# Altium footprint library ESE516_PCB.PcbLib: 24 footprints (part 1 of 2)
Each footprint in its own frame and in the unit in brackets; x right, y up, seen from the top. Pads: shape width x height; smd on the part's side, far side on the other; paste and mask are expansions set on the pad; w line width, h text height; cw(c..) or ccw(c..) is an arc to the next point about the centre after c.
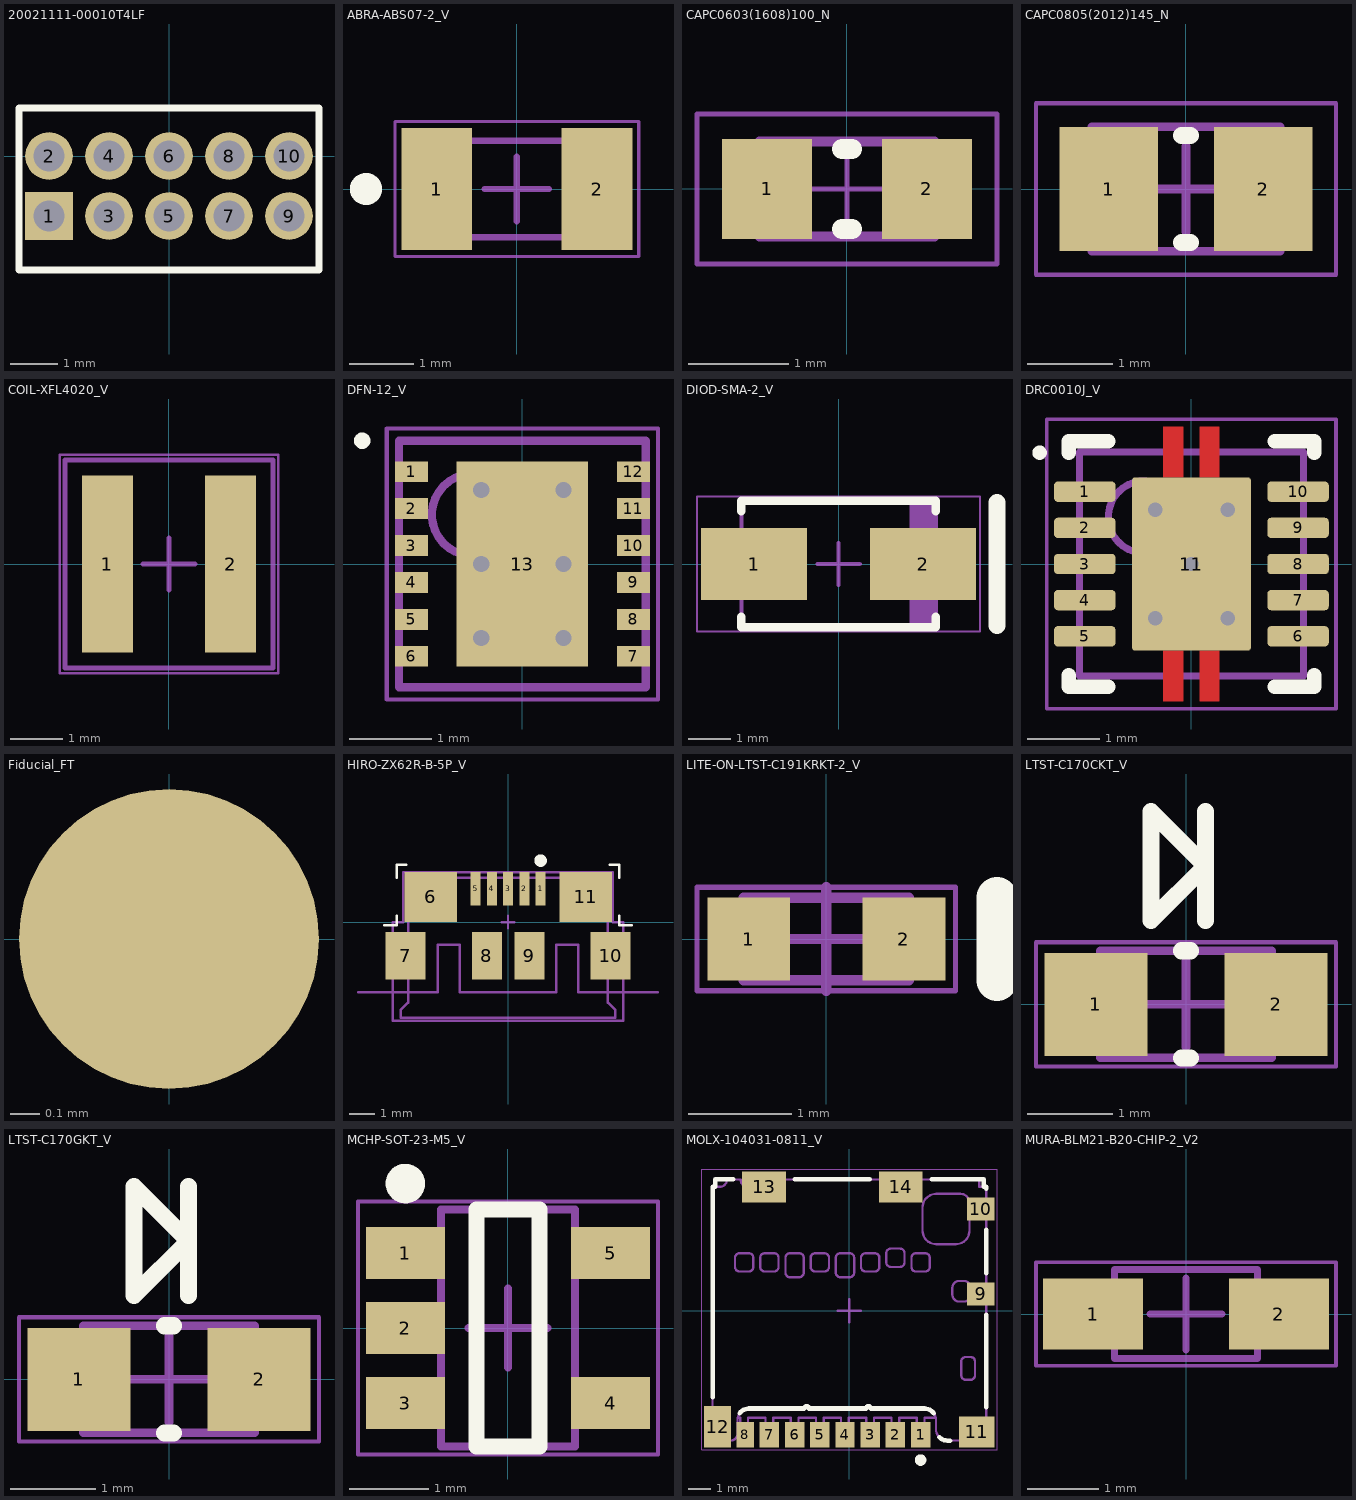
[diagram p0: the footprints below, top view; thin cyan lines are the x and y axes]

## 20021111-00010T4LF [mm] "CONN HEADER 10POS UNSHD VERT T/H"
pads (10):
  rect 1.006x1.006 hole 0.65: 1(-2.54,-1.27)
  round 1.006 hole 0.65: 2(-2.54,0) 3(-1.27,-1.27) 4(-1.27,0) 5(0,-1.27) 6(0,0) 7(1.27,-1.27) 8(1.27,0) 9(2.54,-1.27) 10(2.54,0)
Top Overlay:
  lines w0.152: -3.175,-2.413 3.175,-2.413 3.175,1.016 -3.175,1.016 -3.175,-2.413
3D body "10posheader.STEP": height 5.5, standoff -2.35, extent -3.175,-2.335 3.175,1.065

## ABRA-ABS07-2_V [mm] "Hand Drawn, 2-Leads, Body 3.2x1.5mm, Pitch 2.5mm"
height 0.9
pads (2):
  rect 1.1x1.9 smd: 1(-1.25,0) 2(1.25,0)
Top Overlay:
  circle w0.25: c-2.35,0 r0.125
Mechanical 13:
  lines w0.1: -1.6,-0.75 -1.6,0.75 1.6,0.75 1.6,-0.75 -1.6,-0.75
Mechanical 15:
  lines w0.05: -1.9,-1.05 -1.9,1.05 1.9,1.05 1.9,-1.05 -1.9,-1.05
  lines w0.1: -0.5,0 0.5,0 ; 0,-0.5 0,0.5
3D body: height 0.9, standoff 0, extent -1.6,-0.75 1.6,0.75

## CAPC0603(1608)100_N [mm] "Chip Capacitor, Body 1.6x0.8mm, Height 1.0mm, IPC Medium Density"
height 1
pads (2):
  rect 0.9x1 smd: 1(-0.8,0) 2(0.8,0)
Top Overlay:
  lines w0.2: -0.05,-0.4 0.05,-0.4 ; -0.05,0.4 0.05,0.4
Mechanical 13:
  lines w0.1: -0.875,-0.475 0.875,-0.475 0.875,0.475 -0.875,0.475 -0.875,-0.475
Mechanical 15:
  lines w0.05: -0.475,0 0.475,0 ; 0,-0.475 0,0.475 ; -1.5,-0.75 1.5,-0.75 1.5,0.75 -1.5,0.75 -1.5,-0.75
3D body: height 1, standoff 0, extent 0.525,-0.475 0.875,0.475
3D body: height 1, standoff 0, extent -0.875,-0.475 -0.525,0.475
3D body: height 1, standoff 0, extent -0.525,-0.475 0.525,0.475

## CAPC0805(2012)145_N [mm] "Chip Capacitor, Body 2.0x1.2mm, Height 1.45mm, IPC Medium Density"
height 1.45
pads (2):
  rect 1.15x1.45 smd: 1(-0.9,0) 2(0.9,0)
Top Overlay:
  lines w0.2: -0.05,-0.625 0.05,-0.625 ; -0.05,0.625 0.05,0.625
Mechanical 13:
  lines w0.1: -1.1,-0.725 1.1,-0.725 1.1,0.725 -1.1,0.725 -1.1,-0.725
Mechanical 15:
  lines w0.05: -1.75,-1 1.75,-1 1.75,1 -1.75,1 -1.75,-1
  lines w0.1: -0.5,0 0.5,0 ; 0,-0.5 0,0.5
3D body: height 1.45, standoff 0, extent 0.6,-0.725 1.1,0.725
3D body: height 1.45, standoff 0, extent -1.1,-0.725 -0.6,0.725
3D body: height 1.45, standoff 0, extent -0.6,-0.725 0.6,0.725

## COIL-XFL4020_V [mm] "SMD, 2-Leads, Body 4x4mm, Pitch 2.37mm"
height 2.1
pads (2):
  rect 0.98x3.4 smd paste+0: 1(-1.185,0) 2(1.185,0)
Mechanical 13:
  lines w0.1: -2,-2 2,-2 2,2 -2,2 -2,-2
Mechanical 15:
  lines w0.05: -2.1,-2.1 2.1,-2.1 2.1,2.1 -2.1,2.1 -2.1,-2.1
  lines w0.1: -0.5,0 0.5,0 ; 0,-0.5 0,0.5
3D body: height 2.1, standoff 0, extent -1.999,-1.999 1.999,1.999

## DFN-12_V [mm] "SON, 12-Leads, Body 3x3mm, Pitch 0.45mm, Thermal Pad 2.5x1.6mm"
height 0.9
pads (13):
  rect 0.4x0.25 smd: 1(-1.35,1.125) 2(-1.35,0.675) 3(-1.35,0.225) 4(-1.35,-0.225) 5(-1.35,-0.675) 6(-1.35,-1.125) 7(1.35,-1.125) 8(1.35,-0.675) 9(1.35,-0.225) 10(1.35,0.225) 11(1.35,0.675) 12(1.35,1.125)
  rect 1.6x2.5 smd mask+0.102: 13(0,0)
via -0.5,0.9 diameter 0.5 hole 0.2
via -0.5,0 diameter 0.5 hole 0.2
via -0.5,-0.9 diameter 0.5 hole 0.2
via 0.5,-0.9 diameter 0.5 hole 0.2
via 0.5,0 diameter 0.5 hole 0.2
via 0.5,0.9 diameter 0.5 hole 0.2
Top Overlay:
  circle w0.1: c-1.95,1.5 r0.05
Mechanical 13:
  circle w0.1: c-0.6,0.6 r0.5
  lines w0.1: -1.5,-1.5 1.5,-1.5 1.5,1.5 -1.5,1.5 -1.5,-1.5
Mechanical 15:
  lines w0.05: -1.65,-1.65 -1.65,1.65 1.65,1.65 1.65,-1.65 -1.65,-1.65
  lines w0.1: -0.5,0 0.5,0 ; 0,-0.5 0,0.5
3D body: height 0.9, standoff 0, extent -1.5,-1.5 1.5,1.5

## DIOD-SMA-2_V [mm] "Molded Diode, 2-Leads, Body 4.6x2.92mm"
height 2.4
pads (2):
  rect 2.5x1.7 smd: 1(-2,0) 2(2,0)
Top Overlay:
  lines w0.2: -2.3,-1.25 -2.3,-1.5 2.3,-1.5 2.3,-1.25 ; -2.3,1.25 -2.3,1.5 2.3,1.5 2.3,1.25
  lines w0.4: 3.75,-1.46 3.75,1.46
Mechanical 13:
  rectangle: 1.681,-1.46 2.3,1.46
  lines w0.1: -2.3,-1.46 -2.3,1.46 2.3,1.46 2.3,-1.46 -2.3,-1.46
Mechanical 15:
  lines w0.05: -3.35,-1.6 -3.35,1.6 3.35,1.6 3.35,-1.6 -3.35,-1.6
  lines w0.1: -0.5,0 0.5,0 ; 0,-0.5 0,0.5
3D body "DIOM4326X24L.step": height 2.4, standoff 0, extent -2.52,-1.46 2.52,1.46

## DRC0010J_V [mm] "SON, 10-Leads, Body 3x3mm, Pitch 0.5mm, Thermal Pad 2.4x1.65mm, TI Recommended"
height 1
pads (11):
  rrect36% 0.85x0.28 smd paste-0.025 mask+0.07: 1(-1.475,1) 2(-1.475,0.5) 3(-1.475,0) 4(-1.475,-0.5) 5(-1.475,-1) 6(1.475,-1) 7(1.475,-0.5) 8(1.475,0) 9(1.475,0.5) 10(1.475,1)
  rrect6% 1.65x2.4 smd paste-0.825 mask+0.07: 11(0,0)
via 0.5,-0.75 diameter 0.5 hole 0.2
via -0.5,-0.75 diameter 0.5 hole 0.2
via -0.5,0.75 diameter 0.5 hole 0.2
via 0.5,0.75 diameter 0.5 hole 0.2
via 0,0 diameter 0.5 hole 0.2
Top Layer:
  rectangle: -0.39,-1.9 -0.11,-1.2
  region: 0.39,-1.2 0.11,-1.2 0.11,-1.9 0.39,-1.9
  region: 0.39,1.9 0.11,1.9 0.11,1.2 0.39,1.2
  rectangle: -0.39,1.2 -0.11,1.9
Top Overlay:
  circle w0.1: c-2.1,1.54 r0.05
  lines w0.2: -1.7,-1.54 -1.7,-1.7 -1.15,-1.7 ; -1.7,1.54 -1.7,1.7 -1.15,1.7 ; 1.15,-1.7 1.7,-1.7 1.7,-1.54 ; 1.15,1.7 1.7,1.7 1.7,1.54
Top Paste:
  rectangle: -0.79,-1.16 -0.11,-0.11
  region: 0.79,-0.11 0.11,-0.11 0.11,-1.16 0.79,-1.16
  region: 0.79,1.16 0.11,1.16 0.11,0.11 0.79,0.11
  rectangle: -0.38,-1.88 -0.12,-1.38
  region: 0.38,-1.38 0.12,-1.38 0.12,-1.88 0.38,-1.88
  region: 0.38,1.88 0.12,1.88 0.12,1.38 0.38,1.38
  rectangle: -0.38,1.38 -0.12,1.88
  rectangle: -0.79,0.11 -0.11,1.16
Mechanical 1:
  text ".Designator" at -1.397,-1.016 h0.76
Mechanical 13:
  circle w0.1: c-0.65,0.65 r0.5
  lines w0.1: -1.55,-1.55 1.55,-1.55 1.55,1.55 -1.55,1.55 -1.55,-1.55
Mechanical 15:
  lines w0.05: -2,-2 2,-2 2,2 -2,2 -2,-2
3D body: height 1, standoff 0, extent -1.55,-1.55 1.55,1.55

## Fiducial_FT [mil]
pads (1):
  round 40 smd paste-30 mask+30: ""(0,0)

## HIRO-ZX62R-B-5P_V [mm] "USB Micro-B R/A Connector"
height 2.65
pads (11):
  rect 0.4x1.35 smd: 1(1.3,1.338) 2(0.65,1.338) 3(0,1.338) 4(-0.65,1.338) 5(-1.3,1.338)
  rect 2.1x2 smd: 6(-3.1,1.012) 11(3.1,1.012)
  rect 1.6x1.9 smd: 7(-4.1,-1.338) 10(4.1,-1.338)
  rect 1.2x1.9 smd: 8(-0.85,-1.338) 9(0.85,-1.338)
Top Overlay:
  circle w0.25: c1.304,2.46 r0.125
  lines w0.1: -4.953,-0.127 -4.445,-0.127 -4.445,0.254 ; -4.445,1.778 -4.445,2.286 -4.064,2.286 ; 4.064,2.286 4.445,2.286 4.445,1.778 ; 4.445,0.254 4.445,-0.127 4.953,-0.127
Mechanical 1:
  lines w0.1: -6,-2.8 -2.82,-2.8 -2.82,-0.9 -1.92,-0.9 -1.92,-2.8 0,-2.8 1.92,-2.8 1.92,-0.9 2.82,-0.9 2.82,-2.8 6,-2.8
  text "Board edge" at 5.588,-2.667 h0.2
Mechanical 13:
  lines w0.1: -4,1.78 4,1.78 ; -4,1.78 4,1.78 ; -4,1.78 -4,-0.72 -4.572,-0.72 -4.572,-1.778 -4,-1.778 -4,-3.22 -4.3,-3.52 -4.3,-3.82 4.3,-3.82 4.3,-3.52 4,-3.22 4,-1.778 4.572,-1.778 4.572,-0.72 4,-0.72 4,1.78
Mechanical 15:
  lines w0.1: -0.254,0 0.254,0 ; 0,-0.254 0,0.254 ; -4.6,-3.937 4.6,-3.937 4.6,-2.8 4.6,0 4.2,0 4.2,2 -4.2,2 -4.2,0 -4.6,0 -4.6,-2.8 -4.6,-3.937
3D body "ZX62R-B-5P.stp": height 2.71, standoff -0.23, extent -4.4,-3.953 4.4,1.778

## LITE-ON-LTST-C191KRKT-2_V [mm] "Chip, 2-Leads, Body 1.6x0.8mm"
height 0.55
pads (2):
  rect 0.8x0.8 smd: 1(-0.75,0) 2(0.75,0)
Top Overlay:
  lines w0.4: 1.65,-0.4 1.65,0.4
Mechanical 13:
  lines w0.1: -0.55,-0.4 -0.55,0.4 ; 0.55,-0.4 0.55,0.4 ; -0.8,-0.4 -0.8,0.4 0.8,0.4 0.8,-0.4 -0.8,-0.4
Mechanical 15:
  lines w0.05: -1.25,-0.5 1.25,-0.5 1.25,0.5 -1.25,0.5 -1.25,-0.5
  lines w0.1: -0.5,0 0.5,0 ; 0,-0.5 0,0.5
3D body: height 0.55, standoff 0.18, extent -0.55,-0.4 0.55,0.4
3D body: height 0.18, standoff 0, extent -0.8,-0.4 0.8,0.4

## LTST-C170CKT_V [mm] "SMD, 2-Leads, Body 2x1.25mm"
height 1.1
pads (2):
  rect 1.2x1.2 smd: 1(-1.05,0) 2(1.05,0)
Top Overlay:
  lines w0.2: -0.051,-0.625 0.051,-0.625 ; -0.051,0.625 0.051,0.625 ; 0.227,0.98 0.227,2.25 ; -0.408,0.98 -0.408,2.25 0.227,1.615 -0.408,0.98
Mechanical 13:
  lines w0.1: -0.7,-0.625 -0.7,0.625 ; 0.7,-0.625 0.7,0.625 ; -1,-0.625 1,-0.625 1,0.625 -1,0.625 -1,-0.625
Mechanical 15:
  lines w0.05: -1.75,-0.725 -1.75,0.725 1.75,0.725 1.75,-0.725 -1.75,-0.725
  lines w0.1: -0.5,0 0.5,0 ; 0,-0.5 0,0.5
3D body: height 1.1, standoff 0.5, extent -0.7,-0.625 0.7,0.625
3D body: height 0.5, standoff 0, extent -1,-0.625 1,0.625

## LTST-C170GKT_V [mm] "SMD, 2-Leads, Body 2x1.25mm"
height 1.1
pads (2):
  rect 1.2x1.2 smd: 1(-1.05,0) 2(1.05,0)
Top Overlay:
  lines w0.2: -0.051,-0.625 0.051,-0.625 ; -0.051,0.625 0.051,0.625 ; 0.227,0.98 0.227,2.25 ; -0.408,0.98 -0.408,2.25 0.227,1.615 -0.408,0.98
Mechanical 13:
  lines w0.1: -0.7,-0.625 -0.7,0.625 ; 0.7,-0.625 0.7,0.625 ; -1,-0.625 1,-0.625 1,0.625 -1,0.625 -1,-0.625
Mechanical 15:
  lines w0.05: -1.75,-0.725 -1.75,0.725 1.75,0.725 1.75,-0.725 -1.75,-0.725
  lines w0.1: -0.5,0 0.5,0 ; 0,-0.5 0,0.5
3D body: height 1.1, standoff 0.5, extent -0.7,-0.625 0.7,0.625
3D body: height 0.5, standoff 0, extent -1,-0.625 1,0.625

## MCHP-SOT-23-M5_V [mm] "SOT-23, 5-Leads, Body 3x1.7mm, Pitch 0.95mm"
height 1.45
pads (5):
  rect 1x0.66 smd: 1(-1.3,0.95) 2(-1.3,0) 3(-1.3,-0.95) 4(1.3,-0.95) 5(1.3,0.95)
Top Overlay:
  circle w0.25: c-1.3,1.83 r0.125
  lines w0.2: -0.4,-1.5 -0.4,1.5 0.4,1.5 0.4,-1.5 -0.4,-1.5
Mechanical 13:
  lines w0.1: -0.85,-1.5 0.85,-1.5 0.85,1.5 -0.85,1.5 -0.85,-1.5
Mechanical 15:
  lines w0.05: -1.9,-1.6 1.9,-1.6 1.9,1.6 -1.9,1.6 -1.9,-1.6
  lines w0.1: -0.5,0 0.5,0 ; 0,-0.5 0,0.5
3D body "SOT95P280X145-5L.step": height 1.45, standoff 0, extent -1.5,-1.5 1.5,1.5

## MOLX-104031-0811_V [mm] "Micro SD, 8-Leads, Body 11.95x11.4mm, Pitch 1.1mm"
height 1.57
pads (14):
  rect 0.85x1.1 smd: 1(3.113,-5.412) 2(2.013,-5.412) 3(0.913,-5.412) 4(-0.188,-5.412) 5(-1.288,-5.412) 6(-2.387,-5.412) 7(-3.487,-5.412)
  rect 0.75x1.1 smd: 8(-4.537,-5.412)
  rect 1.2x1 smd: 9(5.748,0.738) 10(5.748,4.438)
  rect 1.55x1.35 smd: 11(5.573,-5.287)
  rect 1.17x1.8 smd: 12(-5.747,-5.062)
  rect 1.9x1.35 smd: 13(-3.722,5.413) 14(2.248,5.413)
Top Overlay:
  circle w0.25: c3.113,-6.512 r0.125
  lines w0.2: -5.968,-3.762 -5.968,5.418 -5.848,5.418 -5.848,5.738 -5.343,5.738 -5.072,5.738 ; -4.777,-4.462 cw(c-4.378,-4.762) -4.378,-4.262 -1.962,-4.262 cw(c-1.862,-4.262) -1.862,-4.162 cw(c-1.862,-4.262) -1.762,-4.262 0.738,-4.262 cw(c0.838,-4.262) 0.838,-4.162 cw(c0.838,-4.262) 0.938,-4.262 3.283,-4.262 cw(c3.283,-4.762) 3.692,-4.476 ; -2.372,5.738 0.898,5.738 ; 3.598,5.738 5.678,5.738 5.863,5.738 5.863,5.418 5.983,5.418 5.983,5.338 ; 3.938,-5.525 ccw(c4.283,-5.162) 4.283,-5.662 4.397,-5.662 ; 5.977,-4.212 5.977,-0.162 ; 5.983,1.638 5.983,3.538
Mechanical 13:
  drawing of 227 lines, arcs and shapes, not listed
Mechanical 15:
  lines w0.05: -6.432,-6.062 -6.432,6.188 6.448,6.188 6.448,-6.062 -6.432,-6.062
  lines w0.1: -0.5,0 0.5,0 ; 0,-0.5 0,0.5
3D body "1040310811.stp": height 1.45, standoff 0, extent -5.967,-5.662 5.983,5.738

## MURA-BLM21-B20-CHIP-2_V2 [mm] "Chip Ferrite Bead, 2-Leads, Body 2x1.25mm, Height 1.05mm, 35/70um Land Pad Thickness, 2A Rated Current"
height 1.05
pads (2):
  rect 1.4x1 smd: 1(-1.3,0) 2(1.3,0)
Mechanical 13:
  lines w0.1: -1,-0.625 1,-0.625 1,0.625 -1,0.625 -1,-0.625
Mechanical 15:
  lines w0.05: -2.1,-0.725 -2.1,0.725 2.1,0.725 2.1,-0.725 -2.1,-0.725
  lines w0.1: -0.5,0 0.5,0 ; 0,-0.5 0,0.5
3D body: height 1.05, standoff 0, extent -1,-0.625 1,0.625